# Altium footprint library IDC_100_2x13_RA.PcbLib: 1 footprints
Each footprint in its own frame and in the unit in brackets; x right, y up, seen from the top. Pads: shape width x height; smd on the part's side, far side on the other; paste and mask are expansions set on the pad; w line width, h text height; cw(c..) or ccw(c..) is an arc to the next point about the centre after c.
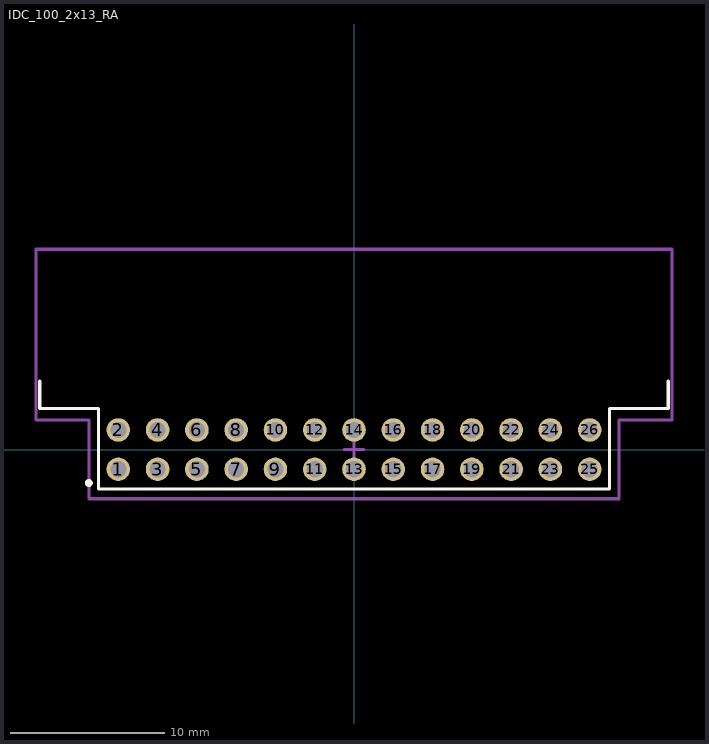
[diagram p0: the footprint, top view; thin cyan lines are the x and y axes]

## IDC_100_2x13_RA [mil]
pads (26):
  round 60 hole 41: 1(-600,-50) 2(-600,50) 3(-500,-50) 4(-500,50) 5(-400,-50) 6(-400,50) 7(-300,-50) 8(-300,50) 9(-200,-50) 10(-200,50) 11(-100,-50) 12(-100,50) 13(0,-50) 14(0,50) 15(100,-50) 16(100,50) 17(200,-50) 18(200,50) 19(300,-50) 20(300,50) 21(400,-50) 22(400,50) 23(500,-50) 24(500,50) 25(600,-50) 26(600,50)
Top Overlay:
  circle w10: c-675,-85 r5
  lines w7.87: -800,175 -800,105 -650,105 -650,-100 650,-100 650,105 800,105 800,175
Mechanical 15:
  lines w7.87: -25,0 25,0 ; 0,-25 0,25 ; -810,75 -810,510 810,510 810,75 675,75 675,-125 -675,-125 -675,75 -810,75
3D body "75867105lf.stp": height 366.19, standoff -119.66, extent -791.93,-62 791.93,488